# EAGLE library part GRIDEYE (library SparkFun-Sensors)
Panasonic AMG8833 GRIDEye This 8x8 thermopile infrared sensor array allows for a low resolution thermal camera.
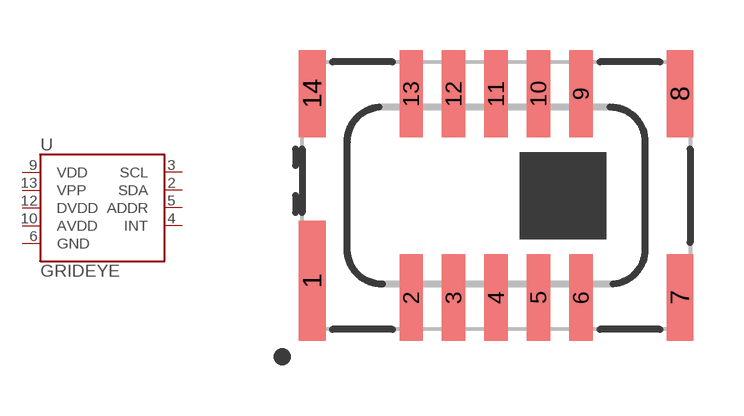
[diagram p45: symbol with the pads of GRIDEYE-AMG88; footprint GRIDEYE-AMG88]

Designator prefix U

## GRIDEYE (PROD_ID: IC-13912)  [GRIDEYE-AMG88]
2  SDA
3  SCL
4  INT
5  ADDR
6  GND
9  VDD
10  AVDD
12  DVDD
13  VPP

## Footprint GRIDEYE-AMG88 (pad centres in mm)
Panasonic AMG8833 GRIDEye Specifications: Pin count: 10 Pin pitch: .050 in. Area: .315 in. x 11.6 in. Datasheet referenced for footprint <https://cdn.sparkfun.com/assets/2/c/9/d/8/Grid-EYE_Datasheet.pdf>
smd 0.8 x 3.6: 1 -5.5,-2.55
smd 0.7 x 2.6: 2 -2.54,-3.05; 3 -1.27,-3.05; 4 0,-3.05; 5 1.27,-3.05; 6 2.54,-3.05; 9 2.54,3.05; 10 1.27,3.05; 11 0,3.05; 12 -1.27,3.05; 13 -2.54,3.05
smd 0.8 x 2.6: 7 5.5,-3.05; 8 5.5,3.05; 14 -5.5,3.05